# Altium schematic symbol library UAH_Sch.SchLib: 2 symbols
Pins are listed as number, name and electrical type; pins without a type are passive.

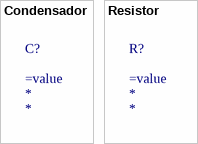
[diagram p0: symbols Condensador to Resistor]

## Condensador
designator C?
=PartNumber: *; =size: *; =voltage: *; =value: *

## Resistor
designator R?
=PartNumber: *; =size: *; =tolerance: *; =value: *